# EAGLE library part LM2675 (library JLB6_power)
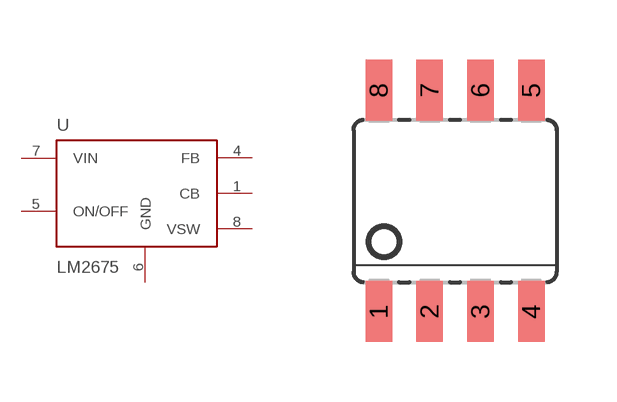
[diagram p1: symbol with the pads of SO8; footprint SO8]

Designator prefix U

## LM2675  [SO8]
1  CB
4  FB
5  ON/OFF
6  GND  pwr
7  VIN  pwr
8  VSW  pwr

## Footprint SO8 (pad centres in mm)
smd 0.66 x 1.524: 1 -1.905,-2.769; 2 -0.635,-2.769; 3 0.635,-2.769; 4 1.905,-2.769; 5 1.905,2.769; 6 0.635,2.769; 7 -0.635,2.769; 8 -1.905,2.769